# EAGLE library part UNIT_PULSAR (library UNIT_Biblioteca_Modulos)
UNIT Pulsar Source: Datasheet SKU: SMT Propietario: UNIT Electronics Desarrollador: Alberto Villanueva
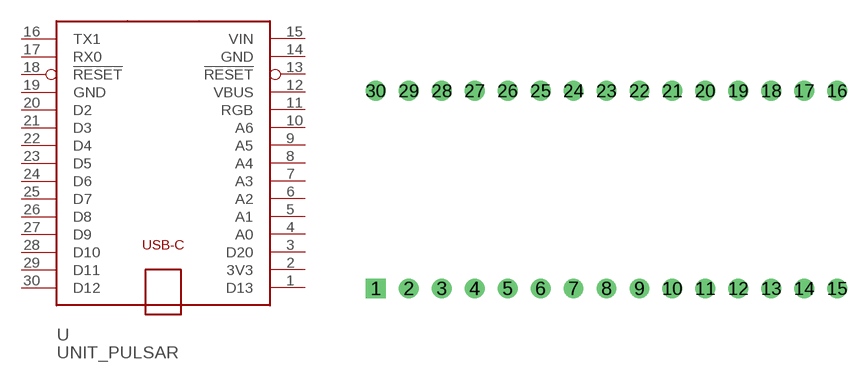
[diagram p31: symbol with the pads of PULSAR_S/N_SILKSCREEN; footprint PULSAR_S/N_SILKSCREEN]

Designator prefix U

## UNIT_PULSAR (CLASS: Modules; DESCRIPTION: UNIT Pulsar Architecture; MANUFACTURER_NAME: UNIT Electronics)  [PULSAR_S/N_SILKSCREEN]
1  D13
2  3V3  out
3  D20  in
4  A0
5  A1
6  A2
7  A3
8  A4
9  A5
10  A6
11  RGB
12  VBUS  pwr
13  !RESET  in
14  GND  pwr
15  VIN  pwr
16  TX1
17  RX0
18  !RESET  in
19  GND  pwr
20  D2
21  D3
22  D4
23  D5
24  D6
25  D7
26  D8
27  D9
28  D10
29  D11
30  D12

## Footprint PULSAR_S/N_SILKSCREEN (pad centres in mm)
Arduino Nano V3.0 The Nano was designed and is being produced by Gravitech. Gravitech Arduino Nano V3.0 <http://www.gravitech.us/arna30wiatp.html>
drill 1.02 square: 1 -17.78,-7.62
drill 1.02: 2 -15.24,-7.62; 3 -12.7,-7.62; 4 -10.16,-7.62; 5 -7.62,-7.62; 6 -5.08,-7.62; 7 -2.54,-7.62; 8 0,-7.62; 9 2.54,-7.62; 10 5.08,-7.62; 11 7.62,-7.62; 12 10.16,-7.62; 13 12.7,-7.62; 14 15.24,-7.62; 15 17.78,-7.62; 16 17.78,7.62; 17 15.24,7.62; 18 12.7,7.62; 19 10.16,7.62; 20 7.62,7.62; 21 5.08,7.62; 22 2.54,7.62; 23 0,7.62; 24 -2.54,7.62; 25 -5.08,7.62; 26 -7.62,7.62; 27 -10.16,7.62; 28 -12.7,7.62; 29 -15.24,7.62; 30 -17.78,7.62